# Altium integrated library 350761-4.IntLib: 1 symbol
Pins are listed as number, name and electrical type; pins without a type are passive.

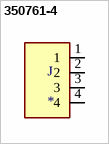
[diagram p0: symbol 350761-4]

## 350761-4
designator J
Connector Power Header 4 Position 6.35mm Solder Straight Through Hole 4 Terminal 1 Port; MP: 350761-4; MF: TE Connectivity; Availability: Unavailable; EU_RoHS_Compliance: Compliant; Package: None; TE_purchase_URL: https://www.te.com/usa-en/product-350761-4.html?te_bu=Cor&te_type=disp&te_campaign=seda_glo_cor-seda-global-disp-prtnr-fy19-seda-model-bom-cta_sma-317_1&elqCampaignId=32493; SnapEDA_Link: https://www.snapeda.com/parts/350761-4/TE%20Connectivity%20AMP%20Connectors/view-part/488643/?ref=snap; Price: None; Value: *
footprint TE_350761-4
pins: 1, 2, 3, 4